# Altium integrated library LIB2022 - Mechanicals.IntLib: 10 symbols
Pins are listed as number, name and electrical type; pins without a type are passive.

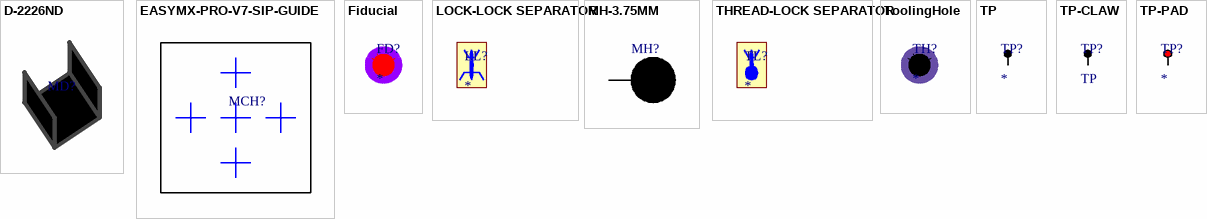
[diagram p0: symbols D-2226ND to TP-PAD]

## D-2226ND
designator MD?
Dissipator for TO-220
footprint D-2226ND

## EASYMX-PRO-V7-SIP-GUIDE
designator MCH?  (no BOM)
EasyMx Pro V7 mechanical centers for SIP connectors
footprint EASYMX-PRO-V7-MCH-GUIDE

## Fiducial
designator FD?  (no BOM)
ClassName: Fiducials
footprint Fiducial

## LOCK-LOCK SEPARATOR
designator LL?  (mechanical)
Separator Lock-Lock 6.4mm

## MH-3.75MM
designator MH?  (no BOM)
ClassName: MountHole
footprint MH-3.75mm-NP
pins: 1

## THREAD-LOCK SEPARATOR
designator TL?  (mechanical)
Separator Thread-Lock 9.5mm

## ToolingHole
designator TH?  (no BOM)
ClassName: Tooling
footprint TOOLING-HOLE

## TP
designator TP?  (no BOM)
footprint TPTH - PAD ONLY
footprint TPTH
pins: 1

## TP-CLAW
designator TP?, comment TP
footprint 534-5280
pins: 1

## TP-PAD
designator TP?  (no BOM)
footprint TPTH - PAD TOP
pins: 1